# Altium schematic symbol library CONN.SchLib: 28 symbols
Pins are listed as number, name and electrical type; pins without a type are passive.

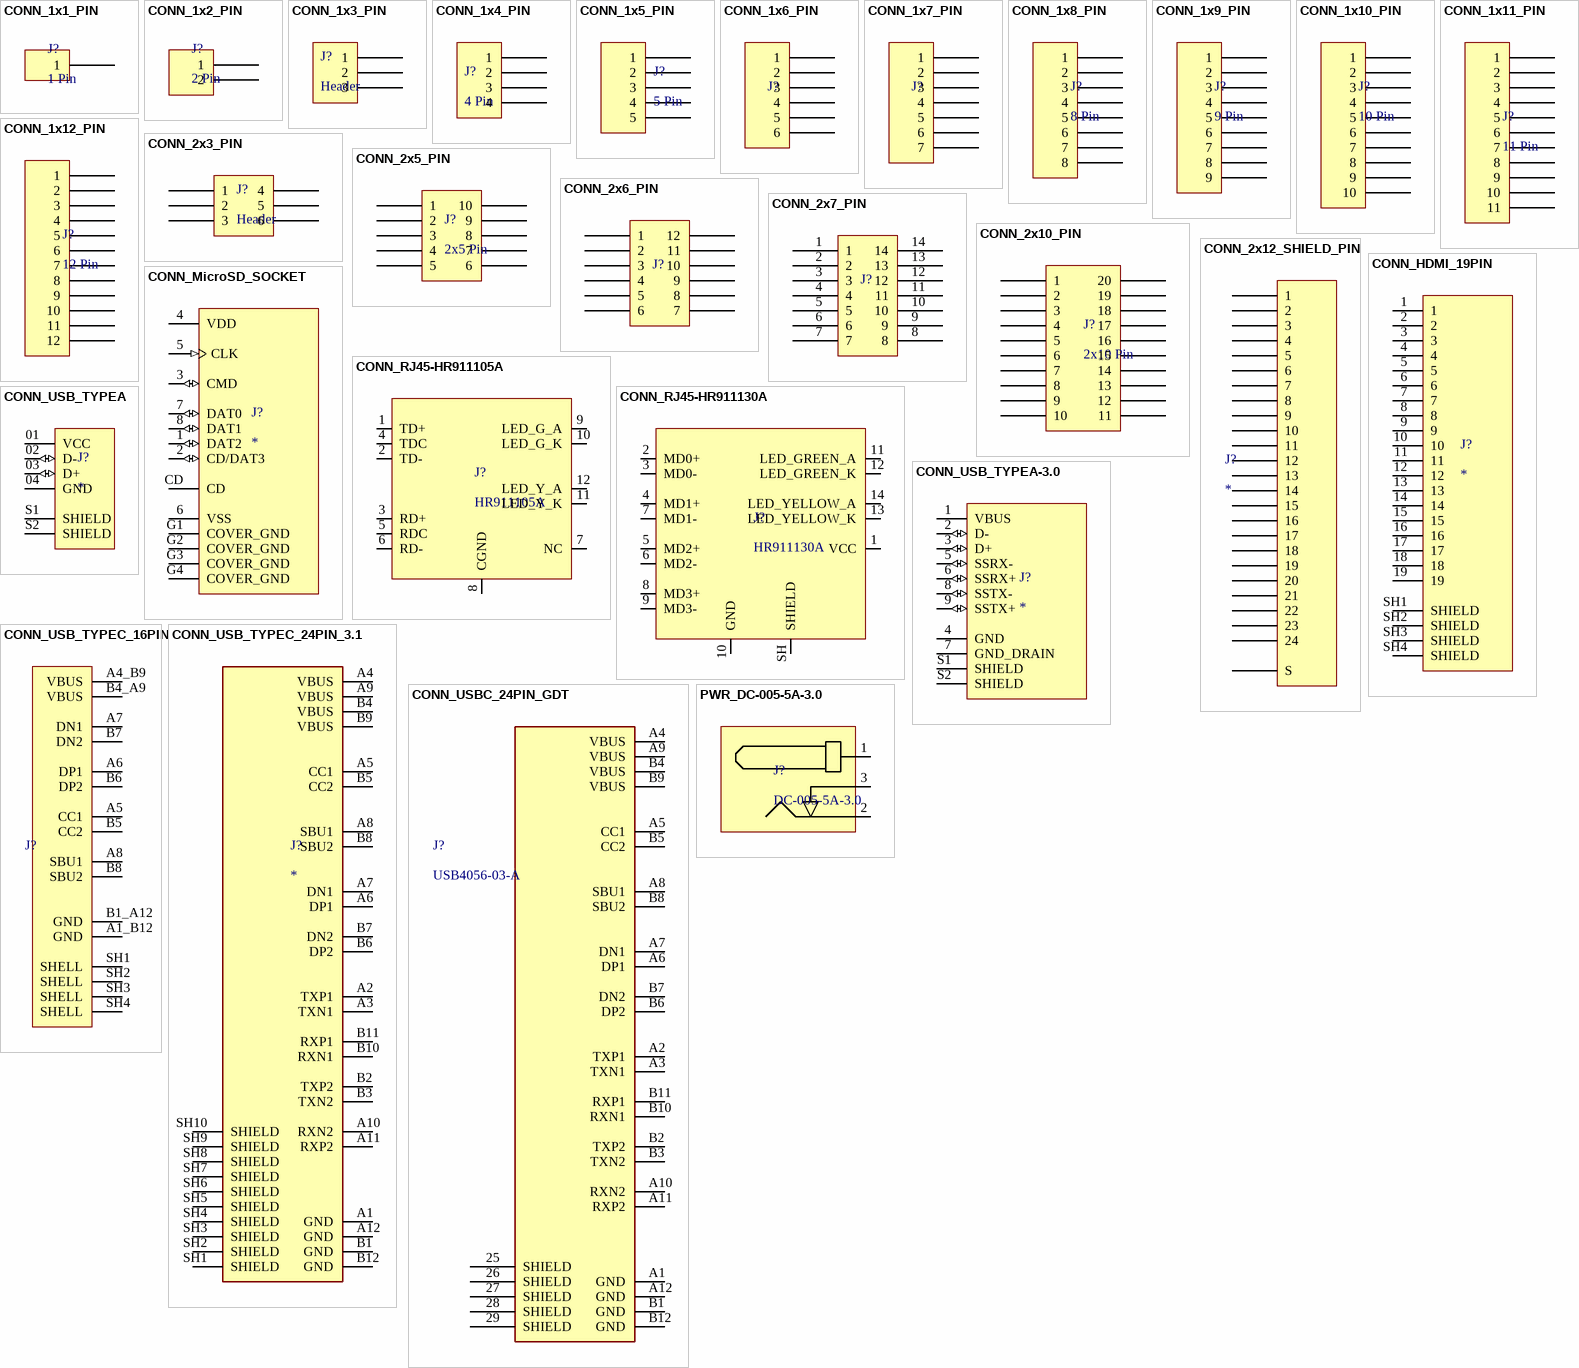
[diagram p0: symbols CONN_1x1_PIN to PWR_DC-005-5A-3.0]

## CONN_1x1_PIN
designator J?, comment 1 Pin
pins: 1

## CONN_1x2_PIN
designator J?, comment 2 Pin
pins: 1, 2

## CONN_1x3_PIN
designator J?, comment Header
pins: 1, 2, 3

## CONN_1x4_PIN
designator J?, comment 4 Pin
pins: 1, 2, 3, 4

## CONN_1x5_PIN
designator J?, comment 5 Pin
pins: 1, 2, 3, 4, 5

## CONN_1x6_PIN
designator J?
pins: 1, 2, 3, 4, 5, 6

## CONN_1x7_PIN
designator J?
pins: 1, 2, 3, 4, 5, 6, 7

## CONN_1x8_PIN
designator J?, comment 8 Pin
pins: 1, 2, 3, 4, 5, 6, 7, 8

## CONN_1x9_PIN
designator J?, comment 9 Pin
pins: 1, 2, 3, 4, 5, 6, 7, 8, 9

## CONN_1x10_PIN
designator J?, comment 10 Pin
pins: 1, 2, 3, 4, 5, 6, 7, 8, 9, 10

## CONN_1x11_PIN
designator J?, comment 11 Pin
pins: 1, 2, 3, 4, 5, 6, 7, 8, 9, 10, 11

## CONN_1x12_PIN
designator J?, comment 12 Pin
pins: 1, 2, 3, 4, 5, 6, 7, 8, 9, 10, 11, 12

## CONN_2x3_PIN
designator J?, comment Header
pins: 1, 2, 3, 4, 5, 6

## CONN_2x5_PIN
designator J?, comment 2x5 Pin
pins: 1, 2, 3, 4, 5, 6, 7, 8, 9, 10

## CONN_2x6_PIN
designator J?
pins: 1, 2, 3, 4, 5, 6, 7, 8, 9, 10, 11, 12

## CONN_2x7_PIN
designator J?
pins: 1, 2, 3, 4, 5, 6, 7, 8, 9, 10, 11, 12, 13, 14

## CONN_2x10_PIN
designator J?, comment 2x10 Pin
pins: 1, 2, 3, 4, 5, 6, 7, 8, 9, 10, 11, 12, 13, 14, 15, 16, 17, 18, 19, 20

## CONN_2x12_SHIELD_PIN
designator J?
pins: 1, 2, 3, 4, 5, 6, 7, 8, 9, 10, 11, 12, 13, 14, 15, 16, 17, 18, 19, 20, 21, 22, 23, 24, S

## CONN_HDMI_19PIN
designator J?
HDMI-Mini Receptacle Connector 19 Position Surface Mount, Right Angle; Through Hole; MF: TE Connectivity; MP: 2013978-2; SnapEDA_Link: https://www.snapeda.com/parts/2013978-2/TE+Connectivity+AMP+Connectors/view-part/?ref=snap; Package: None; Value: *; EU_RoHS_Compliance: Compliant; Check_prices: https://www.snapeda.com/parts/2013978-2/TE+Connectivity+AMP+Connectors/view-part/?ref=eda
footprint CONN_HDMI_SMD
pins: 1, 2, 3, 4, 5, 6, 7, 8, 9, 10, 11, 12, 13, 14, 15, 16, 17, 18, 19, SH1 SHIELD, SH2 SHIELD, SH3 SHIELD, SH4 SHIELD

## CONN_MicroSD_SOCKET
designator J?
Micro SD Card Connector, 9 Positions, Connector and Ejector, Push In, Auto Eject Out, Surface Mount, 1.8 mm Height Above Board, Gold Flash; MF: Same Sky; MP: MSD-1-A; SnapEDA_Link: https://www.snapeda.com/parts/MSD-1-A/Same+Sky/view-part/?ref=snap; Package: None; Value: *; Check_prices: https://www.snapeda.com/parts/MSD-1-A/Same+Sky/view-part/?ref=eda
footprint CONN_MicroSD_SOCKET
pins: 1 DAT2 (io), 2 CD/DAT3 (io), 3 CMD (io), 4 VDD (power), 5 CLK (in), 6 VSS (power), 7 DAT0 (io), 8 DAT1 (io), CD, G1 COVER_GND (power), G2 COVER_GND (power), G3 COVER_GND (power), G4 COVER_GND (power)

## CONN_RJ45-HR911105A
designator J?, comment HR911105A
Single Port RJ45 Connector w/ Integrated Magnetic and LED 10/100 Base-T; Manufacturer: HanRun; Manufacturer Part Number: HR911105A
footprint CONN_RJ45_HANRUN_HR911105A
pins: 1 TD+, 2 TD-, 3 RD+, 4 TDC, 5 RDC, 6 RD-, 7 NC, 8 CGND, 9 LED_G_A, 10 LED_G_K, 11 LED_Y_K, 12 LED_Y_A

## CONN_RJ45-HR911130A
designator J?, comment HR911130A
Single-Port RJ45 Connector with Integrated Magnetics and LEDs,100/1000Base-T Magnetics; Manufacturer: Hanrun; Manufacturer Part Number: HR911130A
footprint CONN_RJ45_HANRUN_HR911130A
pins: 1 VCC, 2 MD0+, 3 MD0-, 4 MD1+, 5 MD2+, 6 MD2-, 7 MD1-, 8 MD3+, 9 MD3-, 10 GND, 11 LED_GREEN_A, 12 LED_GREEN_K, 13 LED_YELLOW_K, 14 LED_YELLOW_A, SH SHIELD

## CONN_USB_TYPEA
designator J?
USB Connectors USB 2.0 Interface, Type A; MP: USB-A-S-F-B-TH-TR; MF: Samtec; SnapEDA_Link: https://www.snapeda.com/parts/USB-A-S-F-B-TH-TR/Samtec/view-part/?ref=snap; Package: None; Supplier: N/A; Supply PN: N/A; Supply URL: N/A
footprint CONN_USBA-S-X-X-TH (thegioiic)
pins: 01 VCC (power), 02 D- (io), 03 D+ (io), 04 GND (power), S1 SHIELD, S2 SHIELD

## CONN_USB_TYPEA-3.0
designator J?
Connector, USB A 3.0 Jack, PCB mount, 90 degrees, nickel shell, DIP, board lock, blue insulator, tray; MF: Tensility International Corp; MP: 54-00007; SnapEDA_Link: https://www.snapeda.com/parts/54-00007/Tensility+International+Corp/view-part/?ref=snap; Package: None; Value: *; Check_prices: https://www.snapeda.com/parts/54-00007/Tensility+International+Corp/view-part/?ref=eda
footprint CONN_USBA_3.0_thegioiic
pins: 1 VBUS (power), 2 D- (io), 3 D+ (io), 4 GND (power), 5 SSRX- (io), 6 SSRX+ (io), 7 GND_DRAIN (power), 8 SSTX- (io), 9 SSTX+ (io), S1 SHIELD, S2 SHIELD

## CONN_USB_TYPEC_16PIN
designator J?  (value not drawn)
USB-C (USB TYPE-C) USB 2.0 Receptacle Connector 24 (16+8 Dummy) Position Surface Mount, Right Angle; Through Hole; MP: USB4105-GF-A; Value: USB-C 2.0 24-Pin (16+8 Dummy); Package: None; Price: None; Availability: Unavailable; ComponentLink1Description: Buy; ComponentLink1URL: https://www.thegioiic.com/cong-usb-cai-3-1-type-c-16-chan-thang-dan-smd; Supplier: N/A; Supplier PN: N/A; Supplier URL: *
footprint CONN_USB_TYPEC_16PIN
pins: A1_B12 GND, A4_B9 VBUS, A5 CC1, A6 DP1, A7 DN1, A8 SBU1, B1_A12 GND, B4_A9 VBUS, B5 CC2, B6 DP2, B7 DN2, B8 SBU2, SH1 SHELL, SH2 SHELL, SH3 SHELL, SH4 SHELL

## CONN_USB_TYPEC_24PIN_3.1
designator J?
Type C, USB 3.2, 5 Gbps, 48 Vac, 5 A, Horizontal, Gold plated 3u, Surface Mount, 24 pin, USB Receptacle; MF: Same Sky; MP: UJ32-C-H-G-SMT-1-P24-TR; SnapEDA_Link: https://www.snapeda.com/parts/UJ32-C-H-G-SMT-1-P24-TR/Same+Sky/view-part/?ref=snap; Package: Package; Value: *; Check_prices: https://www.snapeda.com/parts/UJ32-C-H-G-SMT-1-P24-TR/Same+Sky/view-part/?ref=eda
footprint CONN_USB_TYPE-C_24P_SAMESKY
pins: A1 GND, A2 TXP1, A3 TXN1, A4 VBUS, A5 CC1, A6 DP1, A7 DN1, A8 SBU1, A9 VBUS, A10 RXN2, A11 RXP2, A12 GND, B1 GND, B2 TXP2, B3 TXN2, B4 VBUS, B5 CC2, B6 DP2, B7 DN2, B8 SBU2, B9 VBUS, B10 RXN1, B11 RXP1, B12 GND, SH1 SHIELD, SH2 SHIELD, SH3 SHIELD, SH4 SHIELD, SH5 SHIELD, SH6 SHIELD, SH7 SHIELD, SH8 SHIELD, SH9 SHIELD, SH10 SHIELD

## CONN_USBC_24PIN_GDT
designator J?, comment USB4056-03-A
Description; Manufacturer_Name: Global Connector Technology; Copyright: Copyright (C) 2026 Ultra Librarian. All rights reserved.; Manufacturer_Part_Number: USB4056-03-A; RefDes: RefDes; Type: Type
footprint CONN_USBC_24_4056-03-A_GCT
pins: 25 SHIELD, 26 SHIELD, 27 SHIELD, 28 SHIELD, 29 SHIELD, A1 GND, A2 TXP1, A3 TXN1, A4 VBUS, A5 CC1, A6 DP1, A7 DN1, A8 SBU1, A9 VBUS, A10 RXN2, A11 RXP2, A12 GND, B1 GND, B2 TXP2, B3 TXN2, B4 VBUS, B5 CC2, B6 DP2, B7 DN2, B8 SBU2, B9 VBUS, B10 RXN1, B11 RXP1, B12 GND

## PWR_DC-005-5A-3.0
designator J?, comment DC-005-5A-3.0
DC Barrell Jack 6.2mm 5 A3.0mm Through Hole; Supplier: N/A; Supplier Part Number: DC-005-5A-3.0; Supplier URL: N/A
footprint CONN_PWR_DC-005-5A-3.0
pins: 1, 2, 3